# Altium footprint library EMGnew.PcbLib: 13 footprints
Each footprint in its own frame and in the unit in brackets; x right, y up, seen from the top. Pads: shape width x height; smd on the part's side, far side on the other; paste and mask are expansions set on the pad; w line width, h text height; cw(c..) or ccw(c..) is an arc to the next point about the centre after c.
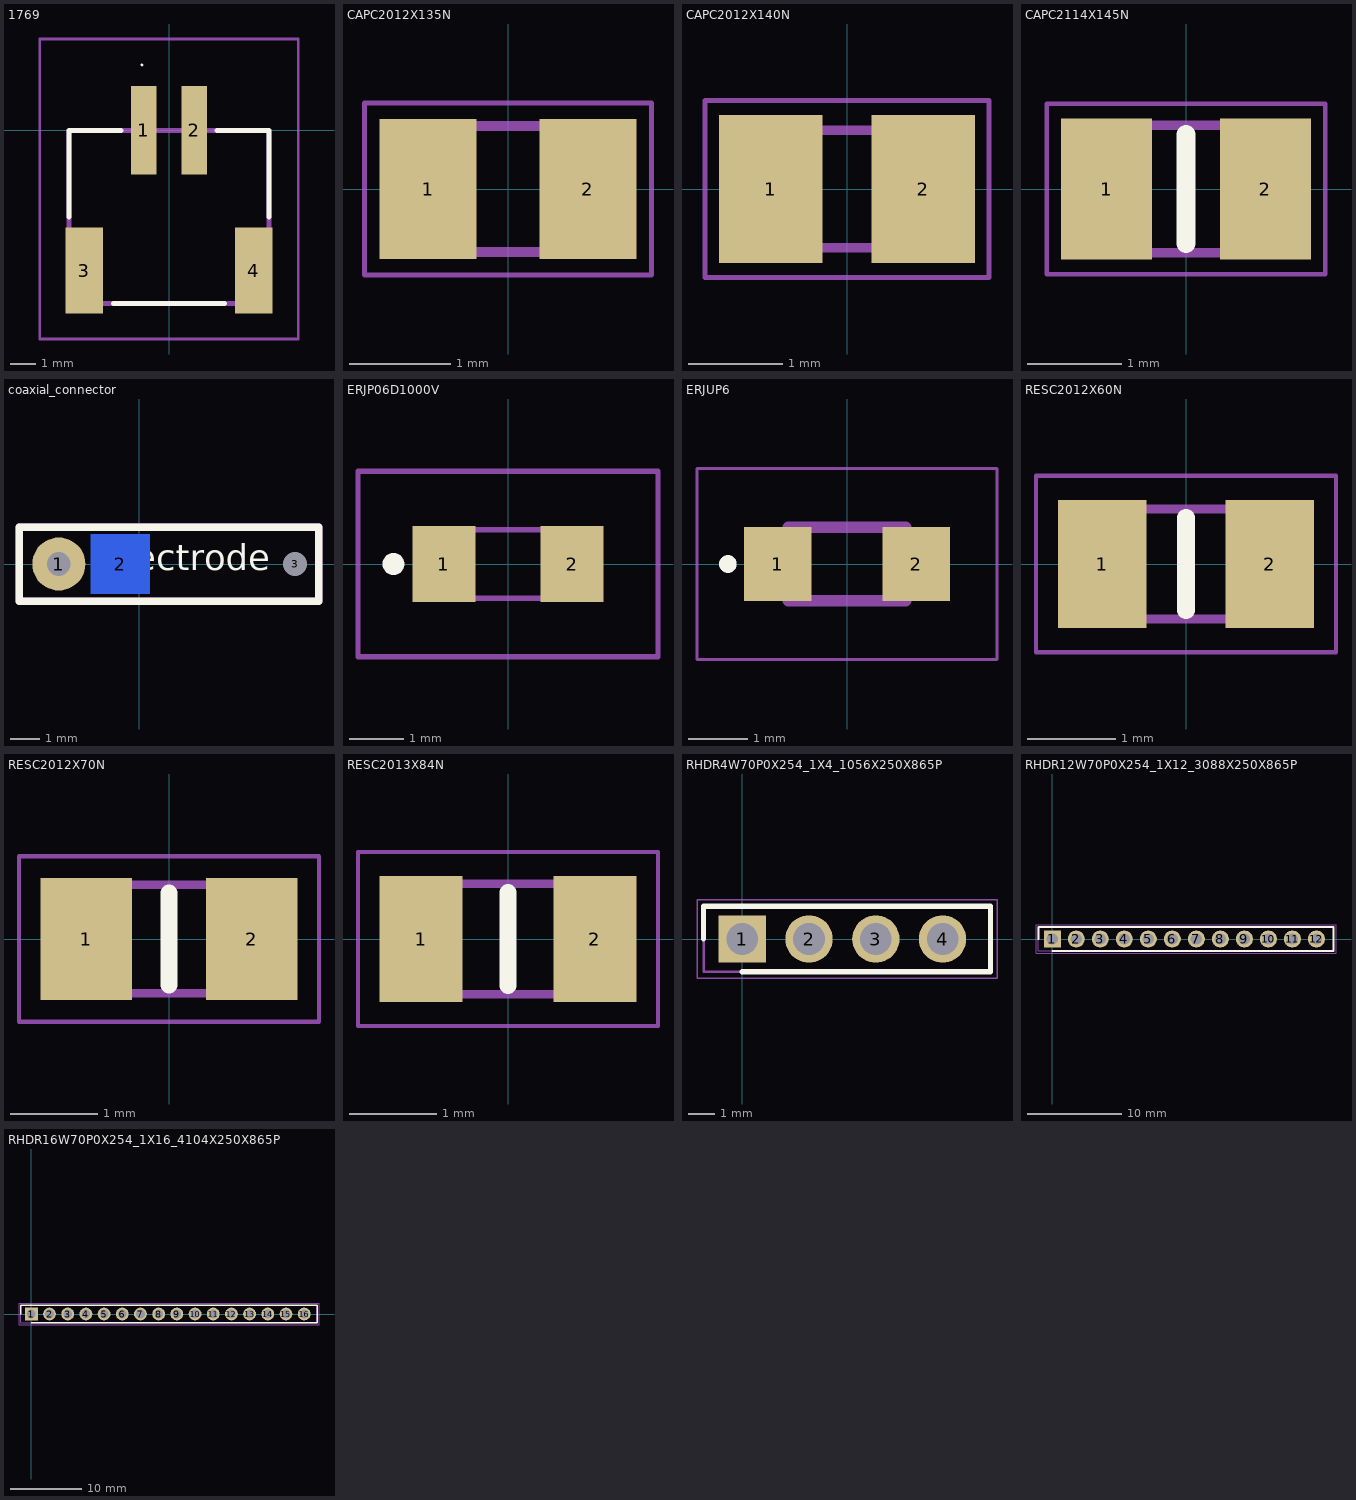
[diagram p0: the footprints below, top view; thin cyan lines are the x and y axes]

## 1769 [mm]
pads (4):
  rect 1x3.5 smd: 1(-1,0) 2(1,0)
  rect 1.5x3.4 smd: 3(-3.35,-5.55) 4(3.35,-5.55)
Top Overlay:
  lines w0.052: -1.095,2.582 cw(c-1.069,2.582) -1.043,2.582 cw(c-1.069,2.582) -1.095,2.582
  lines w0.2: -3.95,-3.425 -3.95,0 -1.9,0 ; -2.196,-6.849 2.196,-6.849 ; 1.9,0 3.95,0 3.95,-3.425
Mechanical 13:
  lines w0.2: -3.95,-6.849 -3.95,0 3.95,0 3.95,-6.849 -3.95,-6.849
Mechanical 15:
  lines w0.1: -5.1,-8.25 -5.1,3.608 5.1,3.608 5.1,-8.25 -5.1,-8.25
3D body "1769.stp": height 4.8, standoff 0, extent -3.95,-7.07 3.95,1.53

## CAPC2012X135N [mm]
pads (2):
  rect 0.96x1.39 smd: 1(-0.79,0) 2(0.79,0)
Mechanical 13:
  lines w0.1: -1,-0.625 -1,0.625 1,0.625 1,-0.625 -1,-0.625
Mechanical 15:
  lines w0.05: -1.42,-0.85 -1.42,0.85 1.42,0.85 1.42,-0.85 -1.42,-0.85
3D body "EMK212BB7106KG-T.stp": height 1.35, standoff 0, extent -1,-0.625 1,0.625

## CAPC2012X140N [mm]
pads (2):
  rect 1.1x1.57 smd: 1(-0.81,0) 2(0.81,0)
Mechanical 13:
  lines w0.1: -1,-0.625 1,-0.625 1,0.625 -1,0.625 -1,-0.625
Mechanical 15:
  lines w0.05: -1.51,-0.94 1.51,-0.94 1.51,0.94 -1.51,0.94 -1.51,-0.94
3D body "C0805X102MBRAC3316.stp": height 1.4, standoff 0, extent -1,-0.625 1,0.625

## CAPC2114X145N [mm]
pads (2):
  rect 0.96x1.49 smd: 1(-0.84,0) 2(0.84,0)
Top Overlay:
  lines w0.2: 0,-0.575 0,0.575
Mechanical 13:
  lines w0.1: -1.05,-0.675 1.05,-0.675 1.05,0.675 -1.05,0.675 -1.05,-0.675
Mechanical 15:
  lines w0.05: -1.47,-0.9 1.47,-0.9 1.47,0.9 -1.47,0.9 -1.47,-0.9
3D body "MCASE21GBC7475KTCA01.stp": height 1.45, standoff 0, extent -1.05,-0.675 1.05,0.675

## coaxial_connector [mm]
pads (3):
  round 1.8 / inner round 2 / far side round 0 hole 0.8: 1(-2.715,0)
  rect 2x2 smd far side: 2(-0.635,0)
  round 0.475 hole 0.8 unplated: 3(5.285,0)
Top Overlay:
  lines w0.254: -4.064,-1.27 6.096,-1.27 6.096,1.249 -4.064,1.249 -4.064,-1.27
  text "Electrode" at -1.27,-0.493 h1.5
Bottom Overlay:
  lines w0.254: -1.905,-1.27 4.699,-1.27 4.699,1.27 -1.905,1.27 -1.905,-1.27
  text "Shield" at 0.762,0.364 h1.5
Mechanical 15:
  lines w0.254: -4.064,-1.27 6.096,-1.27 6.096,1.27 -4.064,1.27 -4.064,-1.27

## ERJP06D1000V [mm]
pads (2):
  rect 1.15x1.4 smd: 1(-1.175,0) 2(1.175,0)
Top Overlay:
  lines w0.2: -2.1,-0.1 cw(c-2.1,0) -2.1,0.1 cw(c-2.1,0) -2.1,-0.1
Mechanical 13:
  lines w0.1: -1,-0.625 1,-0.625 1,0.625 -1,0.625 -1,-0.625
Mechanical 15:
  lines w0.1: -2.75,-1.7 2.75,-1.7 2.75,1.7 -2.75,1.7 -2.75,-1.7
3D body "ERJ-P06D1502V.stp": height 0.6, standoff 0, extent -1,-0.625 1,0.625

## ERJUP6 [mm]
pads (2):
  rect 1.15x1.25 smd: 1(-1.175,0) 2(1.175,0)
Top Overlay:
  circle w0.2: c-2.025,0 r0.05
Mechanical 13:
  lines w0.2: -1,-0.625 1,-0.625 1,0.625 -1,0.625 -1,-0.625
Mechanical 15:
  lines w0.05: -2.55,-1.625 2.55,-1.625 2.55,1.625 -2.55,1.625 -2.55,-1.625
3D body "ERJ-UP6F3740V.stp": height 0.6, standoff 0, extent -1,-0.625 1,0.625

## RESC2012X60N [mm]
pads (2):
  rect 1x1.45 smd: 1(-0.95,0) 2(0.95,0)
Top Overlay:
  lines w0.2: 0,-0.525 0,0.525
Mechanical 13:
  lines w0.1: -1,-0.625 1,-0.625 1,0.625 -1,0.625 -1,-0.625
Mechanical 15:
  lines w0.05: -1.7,-1 1.7,-1 1.7,1 -1.7,1 -1.7,-1
3D body "CRCW08051K00FKTAHP.stp": height 0.6, standoff 0, extent -1,-0.625 1,0.625

## RESC2012X70N [mm]
pads (2):
  rect 1.05x1.4 smd: 1(-0.95,0) 2(0.95,0)
Top Overlay:
  lines w0.2: 0,-0.525 0,0.525
Mechanical 13:
  lines w0.1: -1,-0.625 1,-0.625 1,0.625 -1,0.625 -1,-0.625
Mechanical 15:
  lines w0.05: -1.725,-0.95 1.725,-0.95 1.725,0.95 -1.725,0.95 -1.725,-0.95
3D body "ERJ-S06J101V.stp": height 0.6, standoff 0, extent -1,-0.625 1,0.625

## RESC2013X84N [mm]
pads (2):
  rect 0.95x1.45 smd: 1(-1,0) 2(1,0)
Top Overlay:
  lines w0.2: 0,-0.535 0,0.535
Mechanical 13:
  lines w0.1: -1.016,-0.635 -1.016,0.635 1.016,0.635 1.016,-0.635 -1.016,-0.635
Mechanical 15:
  lines w0.05: -1.725,-1 -1.725,1 1.725,1 1.725,-1 -1.725,-1
3D body "PLTT0805Z1502QGT5.stp": height 0.84, standoff 0, extent -1.016,-0.635 1.016,0.635

## RHDR4W70P0X254_1X4_1056X250X865P [mm]
pads (4):
  rect 1.8x1.8 hole 1.2: 1(0,0)
  round 1.8 hole 1.2: 2(2.54,0) 3(5.08,0) 4(7.62,0)
Top Overlay:
  lines w0.2: -1.47,0 -1.47,1.25 9.44,1.25 9.44,-1.25 0,-1.25
Mechanical 13:
  lines w0.1: -1.47,-1.25 9.44,-1.25 9.44,1.25 -1.47,1.25 -1.47,-1.25
Mechanical 15:
  lines w0.05: -1.72,-1.5 9.69,-1.5 9.69,1.5 -1.72,1.5 -1.72,-1.5
3D body "M20-7820446.stp": height 8.65, standoff -3.25, extent -1.47,-1.25 9.09,1.25

## RHDR12W70P0X254_1X12_3088X250X865P [mm]
pads (12):
  rect 1.8x1.8 hole 1.2: 1(0,0)
  round 1.8 hole 1.2: 2(2.54,0) 3(5.08,0) 4(7.62,0) 5(10.16,0) 6(12.7,0) 7(15.24,0) 8(17.78,0) 9(20.32,0) 10(22.86,0) 11(25.4,0) 12(27.94,0)
Top Overlay:
  lines w0.2: -1.47,0 -1.47,1.25 29.76,1.25 29.76,-1.25 0,-1.25
Mechanical 13:
  lines w0.1: -1.47,-1.25 29.76,-1.25 29.76,1.25 -1.47,1.25 -1.47,-1.25
Mechanical 15:
  lines w0.05: -1.72,-1.5 30.01,-1.5 30.01,1.5 -1.72,1.5 -1.72,-1.5
3D body "M20-7821242.stp": height 8.5, standoff -3, extent -1.41,-1.25 29.47,1.25

## RHDR16W70P0X254_1X16_4104X250X865P [mm]
pads (16):
  rect 1.8x1.8 hole 1.2: 1(0,0)
  round 1.8 hole 1.2: 2(2.54,0) 3(5.08,0) 4(7.62,0) 5(10.16,0) 6(12.7,0) 7(15.24,0) 8(17.78,0) 9(20.32,0) 10(22.86,0) 11(25.4,0) 12(27.94,0) 13(30.48,0) 14(33.02,0) 15(35.56,0) 16(38.1,0)
Top Overlay:
  lines w0.2: -1.47,0 -1.47,1.25 39.92,1.25 39.92,-1.25 0,-1.25
Mechanical 13:
  lines w0.1: -1.47,-1.25 39.92,-1.25 39.92,1.25 -1.47,1.25 -1.47,-1.25
Mechanical 15:
  lines w0.05: -1.72,-1.5 40.17,-1.5 40.17,1.5 -1.72,1.5 -1.72,-1.5
3D body "M20-7821642.stp": height 8.65, standoff -3.25, extent -1.47,-1.25 39.57,1.25